# Altium footprint library RJ45.PCBLIB: 1 footprints
Each footprint in its own frame and in the unit in brackets; x right, y up, seen from the top. Pads: shape width x height; smd on the part's side, far side on the other; paste and mask are expansions set on the pad; w line width, h text height; cw(c..) or ccw(c..) is an arc to the next point about the centre after c.
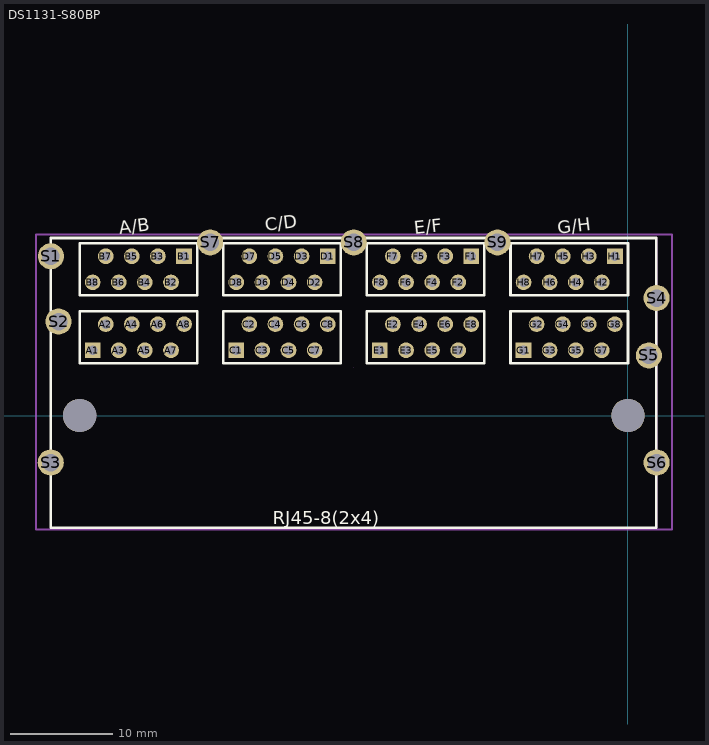
[diagram p0: the footprint, top view; thin cyan lines are the x and y axes]

## DS1131-S80BP [mil]
pads (75):
  rect 60x60 hole 36: A1(-2050,250) B1(-1700,610) C1(-1500,250) D1(-1150,610) E1(-950,250) F1(-600,610) G1(-400,250) H1(-50,610)
  round 60 hole 36: A2(-2000,350) A3(-1950,250) A4(-1900,350) A5(-1850,250) A6(-1800,350) A7(-1750,250) A8(-1700,350) B2(-1750,510) B3(-1800,610) B4(-1850,510) B5(-1900,610) B6(-1950,510) B7(-2000,610) B8(-2050,510) C2(-1450,350) C3(-1400,250) C4(-1350,350) C5(-1300,250) C6(-1250,350) C7(-1200,250) C8(-1150,350) D2(-1200,510) D3(-1250,610) D4(-1300,510) D5(-1350,610) D6(-1400,510) D7(-1450,610) D8(-1500,510) E2(-900,350) E3(-850,250) E4(-800,350) E5(-750,250) E6(-700,350) E7(-650,250) E8(-600,350) F2(-650,510) F3(-700,610) F4(-750,510) F5(-800,610) F6(-850,510) F7(-900,610) F8(-950,510) G2(-350,350) G3(-300,250) G4(-250,350) G5(-200,250) G6(-150,350) G7(-100,250) G8(-50,350) H2(-100,510) H3(-150,610) H4(-200,510) H5(-250,610) H6(-300,510) H7(-350,610) H8(-400,510)
  round 100 hole 66.93: S1(-2210,610) S2(-2180.76,360) S3(-2210.69,-180) S4(109.79,450) S5(79.87,230.31) S6(109.79,-180) S7(-1600,663.15) S8(-1050,663.15) S9(-500,663.15)
  round 127.95 hole 127.95 unplated: ""(-2100,0) ""(0,0)
Top Overlay:
  lines w10: -2209.89,680 109,680 ; 109,680 -2210,680 -2210,-430 109,-430 109,680 ; -2100,200 -1650,200 -1650,400 -2100,400 -2100,200 ; -2100,460 -1650,460 -1650,660 -2100,660 -2100,460 ; -1550,200 -1100,200 -1100,400 -1550,400 -1550,200 ; -1550,460 -1100,460 -1100,660 -1550,660 -1550,460 ; -1000,200 -550,200 -550,400 -1000,400 -1000,200 ; -1000,460 -550,460 -550,660 -1000,660 -1000,460 ; -450,200 0,200 0,400 -450,400 -450,200 ; -450,460 0,460 0,660 -450,660 -450,460
  text "A/B" at -1946.95,695.19 h50
  text "C/D" at -1386.95,705.19 h50
  text "E/F" at -817.39,695.14 h50
  text "G/H" at -266.95,695.19 h50
  text "RJ45-8(2x4)" at -1360,-415.4 h50
Top Assembly:
  lines w5: -2208.66,-429.13 -2208.66,681.1 110.24,681.1 110.24,-429.13 -2208.66,-429.13
Top Courtyard:
  lines w7.87: -2267.72,-437.01 169.29,-437.01 169.29,692.91 -2267.72,692.91 -2267.72,-437.01
Top Designator:
  text ".Designator" at -1129.92,-47.24 h30
Mechanical 15:
  lines w0.1: -1050.46,183.74 -1050.44,183.76
3D body: height 996.06, standoff 0, extent -2210.24,-423.23 110.24,687.01